# EAGLE library part ATTINY2313 (library bytewerk-uc)
8 bit uC - 1x 8bit + 16bit timer - 1x USART, 4x PWM, dW, 18x I/O
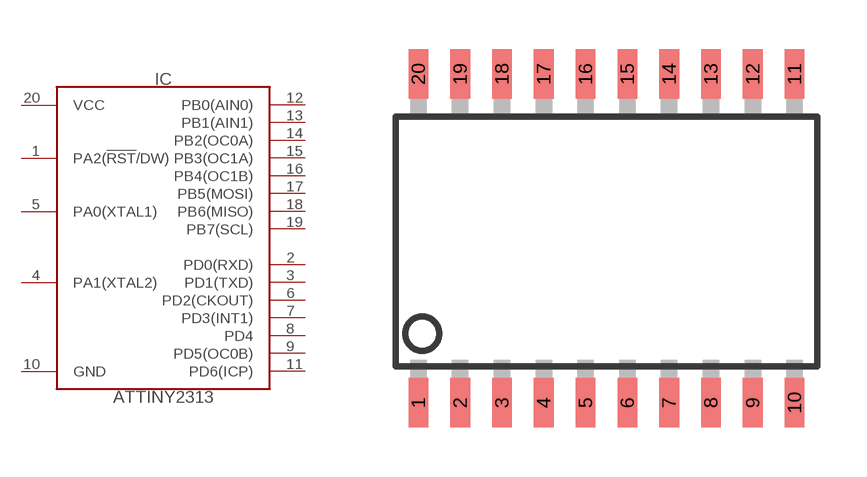
[diagram p8: symbol with the pads of SOIC20; footprint SOIC20]

Designator prefix IC

## ATTINY2313  [SOIC20]
1  PA2(!RST!/DW)
2  PD0(RXD)
3  PD1(TXD)
4  PA1(XTAL2)
5  PA0(XTAL1)
6  PD2(CKOUT)
7  PD3(INT1)
8  PD4
9  PD5(OC0B)
10  GND  pwr
11  PD6(ICP)
12  PB0(AIN0)
13  PB1(AIN1)
14  PB2(OC0A)
15  PB3(OC1A)
16  PB4(OC1B)
17  PB5(MOSI)
18  PB6(MISO)
19  PB7(SCL)
20  VCC  pwr

## Footprint SOIC20 (pad centres in mm)
smd 0.6 x 1.5: 1 -5.715,-5; 2 -4.445,-5; 3 -3.175,-5; 4 -1.905,-5; 5 -0.635,-5; 6 0.635,-5; 7 1.905,-5; 8 3.175,-5; 9 4.445,-5; 10 5.715,-5; 11 5.715,5; 12 4.445,5; 13 3.175,5; 14 1.905,5; 15 0.635,5; 16 -0.635,5; 17 -1.905,5; 18 -3.175,5; 19 -4.445,5; 20 -5.715,5